# Altium footprint library ME-0020-0030.PcbLib: 1 footprints
Each footprint in its own frame and in the unit in brackets; x right, y up, seen from the top. Pads: shape width x height; smd on the part's side, far side on the other; paste and mask are expansions set on the pad; w line width, h text height; cw(c..) or ccw(c..) is an arc to the next point about the centre after c.
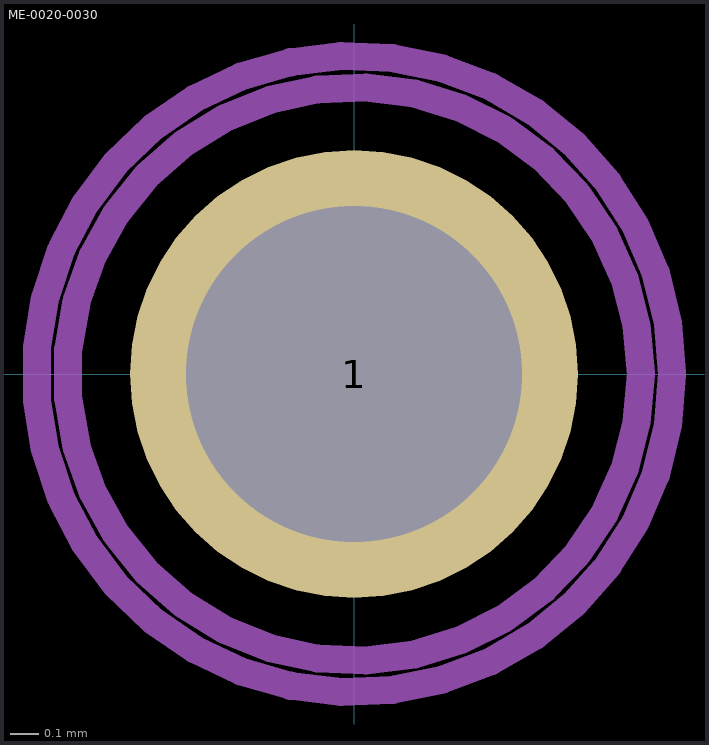
[diagram p0: the footprint, top view; thin cyan lines are the x and y axes]

## ME-0020-0030 [mm]
pads (1):
  round 1.6 hole 1.2: 1(0,0)
Mechanical 1:
  circle w0.1: c0,0 r1.024
Mechanical 15:
  circle w0.1: c0,0 r1.136
3D body: height 2.22, standoff -0.98, extent -0.994,-0.998 0.998,0.998